# EAGLE library part REF02HSA+ (library bsodmike-Eagle-Libraries)
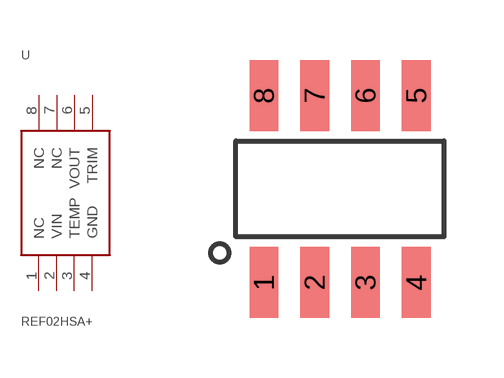
[diagram p0: symbol with the pads of SOIC-8; footprint SOIC-8]

Designator prefix -

## REF02HSA+  [SOIC-8]
1  NC
2  VIN
3  TEMP
4  GND
5  TRIM
6  VOUT
7  NC
8  NC

## Footprint SOIC-8 (pad centres in mm)
smd 0.72 x 1.78: 1 0,-2.34; 2 1.27,-2.34; 3 2.54,-2.34; 4 3.81,-2.34; 5 3.81,2.34; 6 2.54,2.34; 7 1.27,2.34; 8 0,2.34